# Altium schematic symbol library ArduinoLib.SchLib: 2 symbols
Pins are listed as number, name and electrical type; pins without a type are passive.

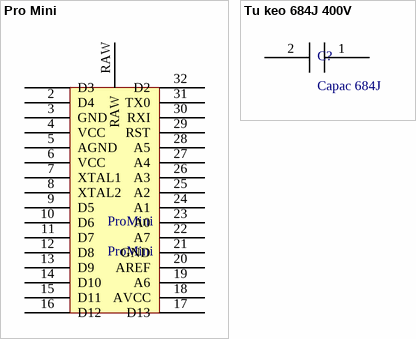
[diagram p0: symbols Pro Mini to Tu keo 684J 400V]

## Pro Mini
designator ProMini, comment ProMini
footprint Arduino Pro Mini
pins: 1 D3, 2 D4, 3 GND, 4 VCC, 5 AGND, 6 VCC, 7 XTAL1, 8 XTAL2, 9 D5, 10 D6, 11 D7, 12 D8, 13 D9, 14 D10, 15 D11, 16 D12, 17 D13, 18 AVCC, 19 A6, 20 AREF, 21 GND, 22 A7, 23 A0, 24 A1, 25 A2, 26 A3, 27 A4, 28 A5, 29 RST, 30 RXI, 31 TX0, 32 D2, RAW

## Tu keo 684J 400V
designator C?, comment Capac 684J
footprint Tu keo 684J 400V
pins: 1, 2